# Altium footprint library plcc-4.PcbLib: 1 footprints
Each footprint in its own frame and in the unit in brackets; x right, y up, seen from the top. Pads: shape width x height; smd on the part's side, far side on the other; paste and mask are expansions set on the pad; w line width, h text height; cw(c..) or ccw(c..) is an arc to the next point about the centre after c.
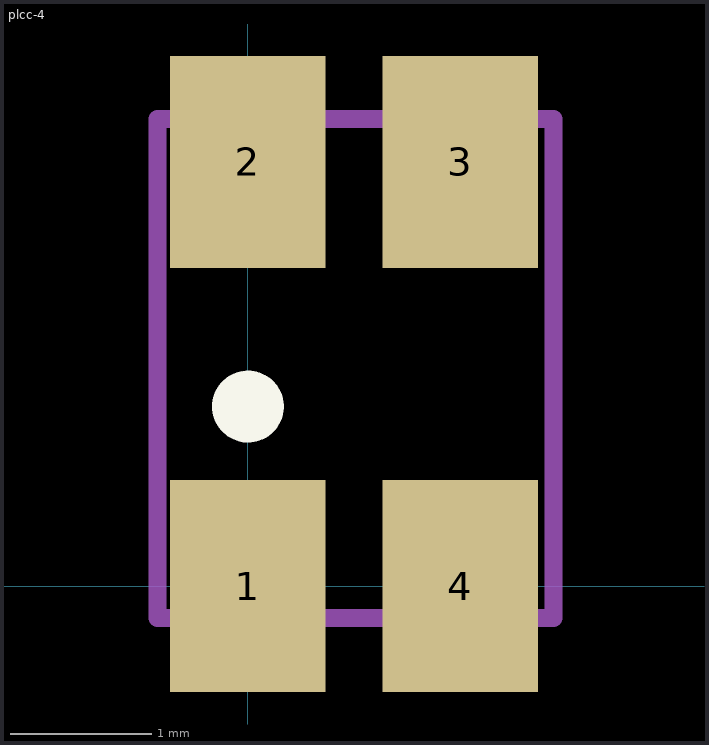
[diagram p0: the footprint, top view; thin cyan lines are the x and y axes]

## plcc-4 [mm]
pads (4):
  rect 1.1x1.5 smd: 1(0,0) 2(0,3) 3(1.5,3) 4(1.5,0)
Top Overlay:
  circle w0.254: c0,1.27 r0.127
Mechanical 1:
  lines w0.127: -0.638,-0.226 -0.638,3.302 2.162,3.302 2.162,-0.226 -0.638,-0.226
3D body "PLCC-4-LED.SLDPRT": height 1.9, standoff 0, extent -0.638,-0.226 2.162,3.274